# EAGLE library part LMR16006Y (library Eagle_CAD_parts)
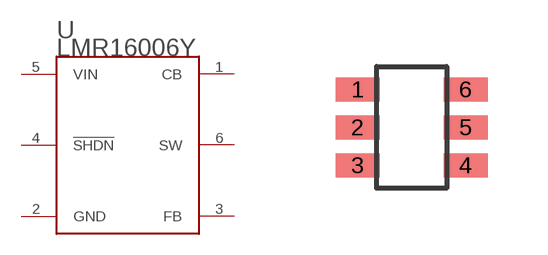
[diagram p54: symbol with the pads of SOT-6; footprint SOT-6]

Designator prefix U

## LMR16006Y_LMR16006 (DIGIKEY_PART_NUMBER: 296-40294-1-ND; ID: 600 mA; MANUFACTURER_PART_NUMBER: LMR16006YDDCR; VIN: 4V - 60V)  [SOT-6]
1  CB
2  GND
3  FB
4  !SHDN
5  VIN
6  SW

## Footprint SOT-6 (pad centres in mm)
smd 1.1 x 0.6: 1 -1.35,0.95; 2 -1.35,0; 3 -1.35,-0.95; 4 1.35,-0.95; 5 1.35,0; 6 1.35,0.95